# Altium schematic symbol library RT0603BRD0733RL.SchLib: 1 symbol
Pins are listed as number, name and electrical type; pins without a type are passive.

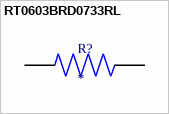
[diagram p0: symbol RT0603BRD0733RL]

## RT0603BRD0733RL
designator R?
RES SMD 33 OHM 0.1% 1/10W 0603; MP: RT0603BRD0733RL; MF: {'manufacturer': u'Yageo'}; Price: None; Availability: Unavailable; Value: *; Package: None
footprint RESC1608X55N
pins: 1, 2